# Altium schematic symbol library MCP3422A0-E_SN.Schlib: 1 symbol
Pins are listed as number, name and electrical type; pins without a type are passive.

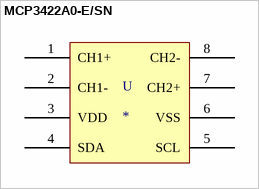
[diagram p0: symbol MCP3422A0-E/SN]

## MCP3422A0-E/SN
designator U
18-Bit, Multi-Channel Analog-to-Digital Converter with I2C Interface and On-Board Reference
pins: 1 CH1+, 2 CH1-, 3 VDD, 4 SDA, 5 SCL, 6 VSS, 7 CH2+, 8 CH2-